# Altium schematic symbol library XCKU11P-1FFVA1156I.SchLib: 1 symbol
Pins are listed as number, name and electrical type; pins without a type are passive.

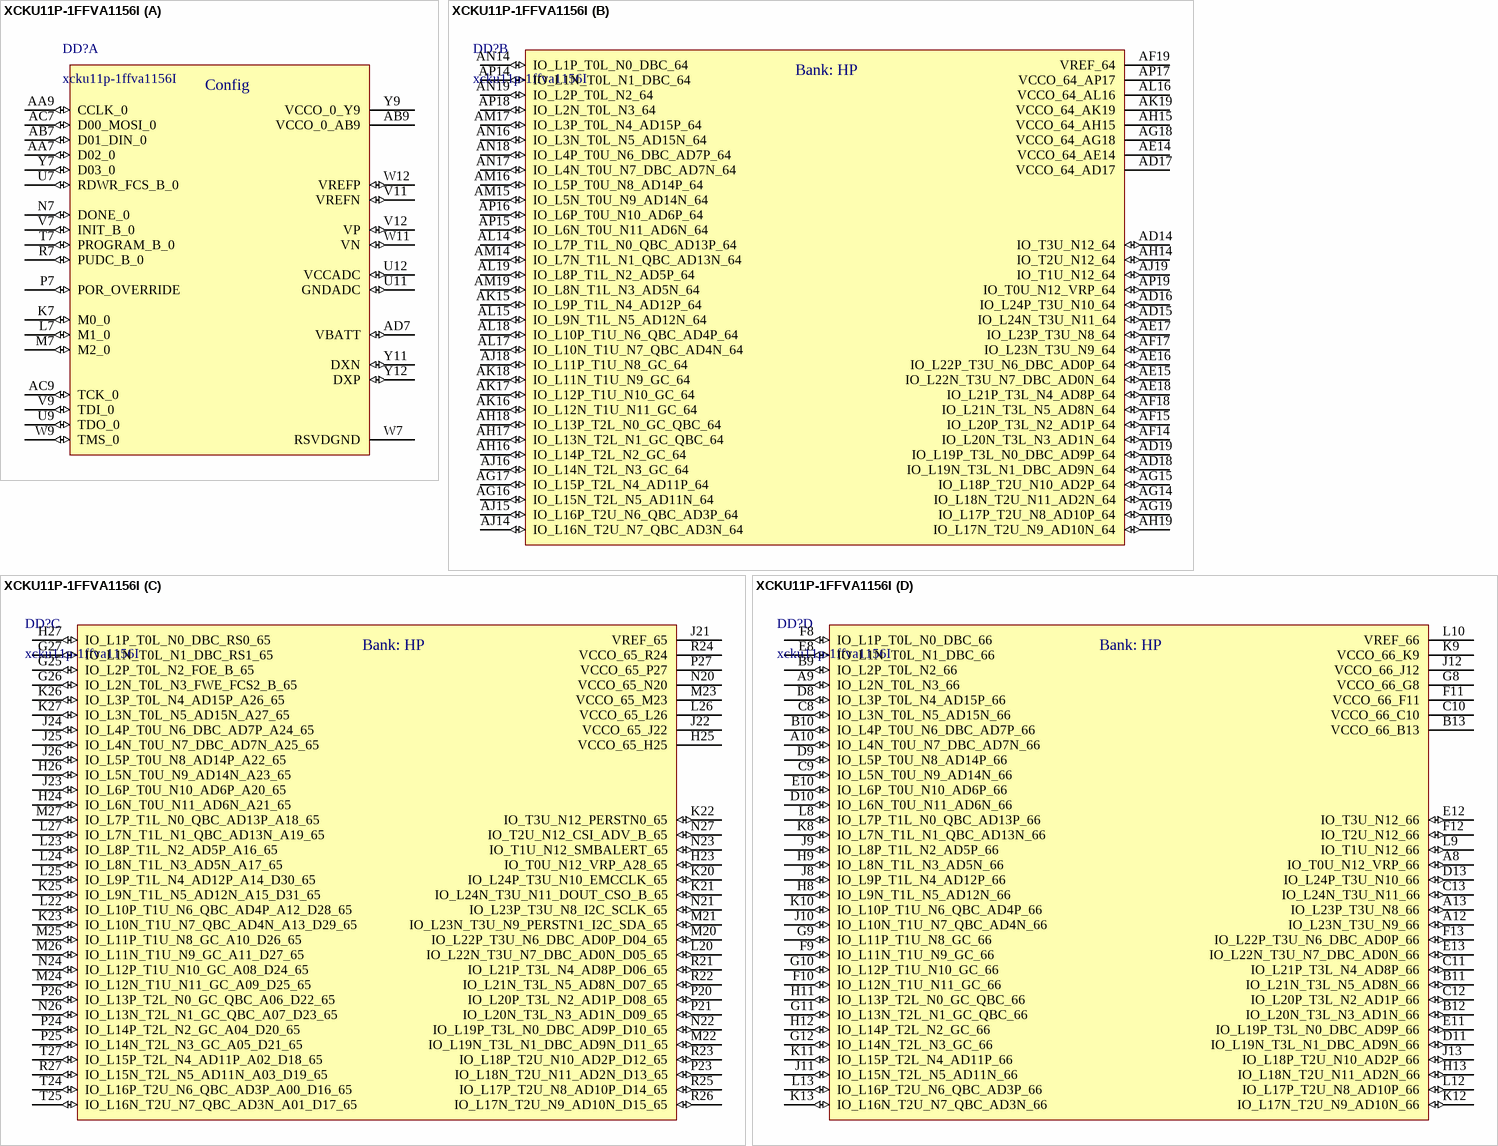
[diagram p0: symbol XCKU11P-1FFVA1156I]

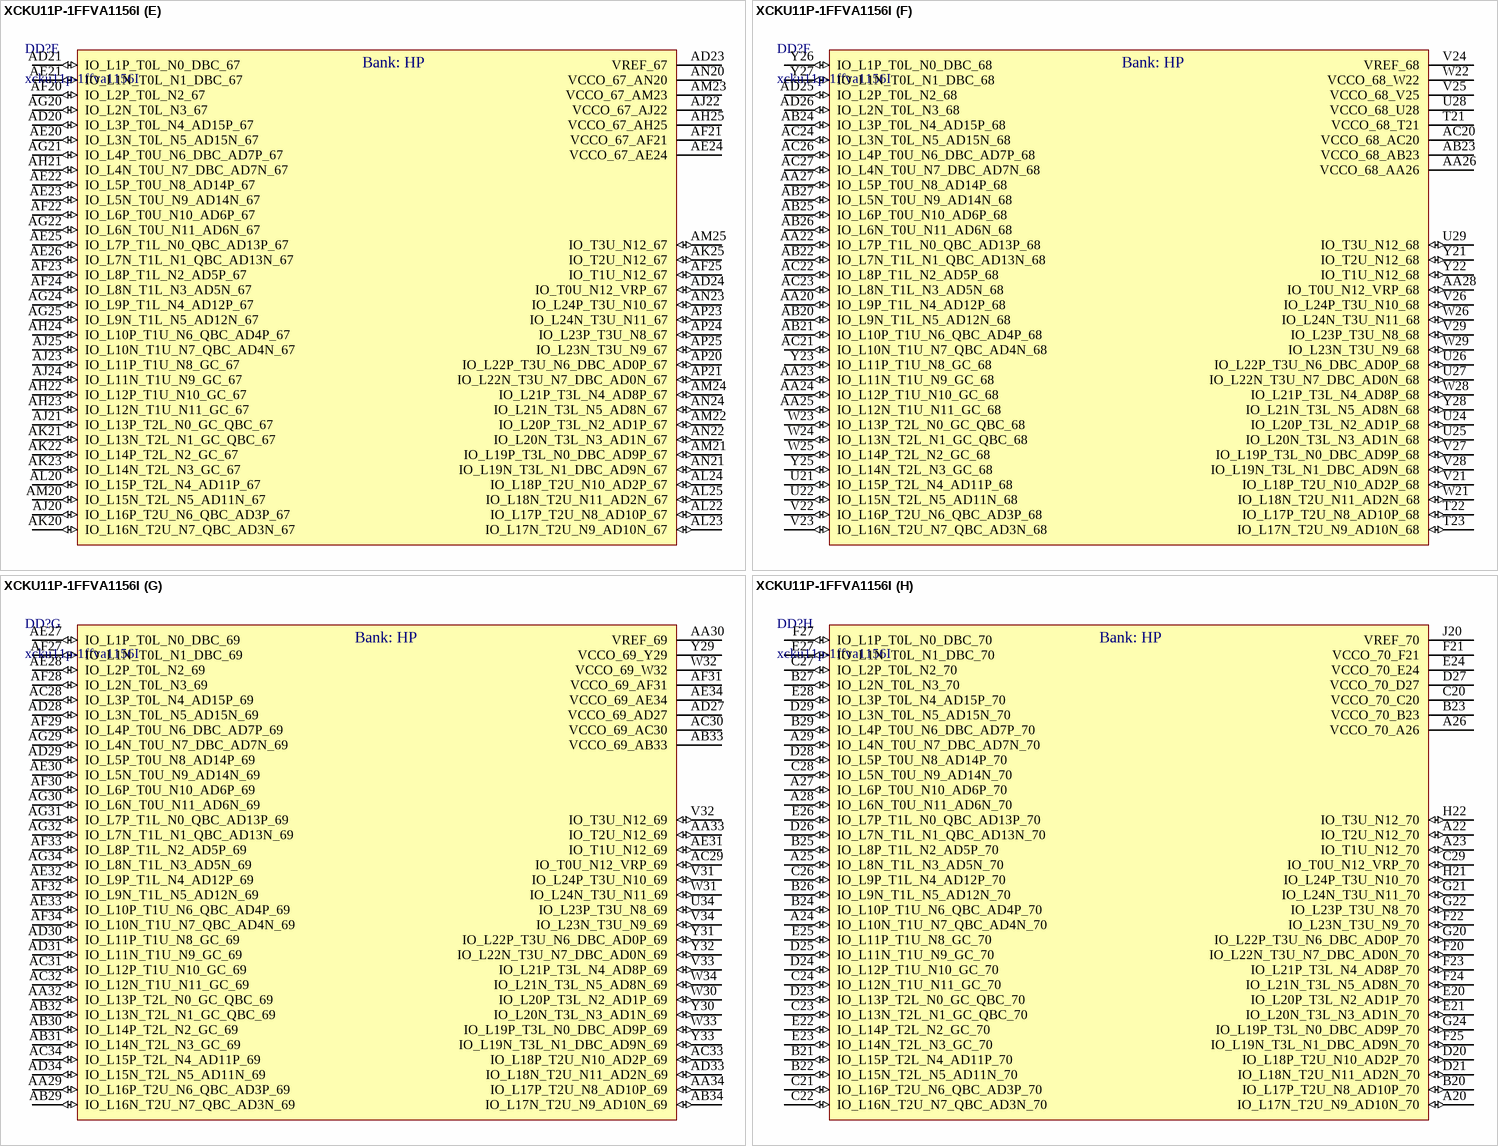
[diagram p1: symbol XCKU11P-1FFVA1156I]

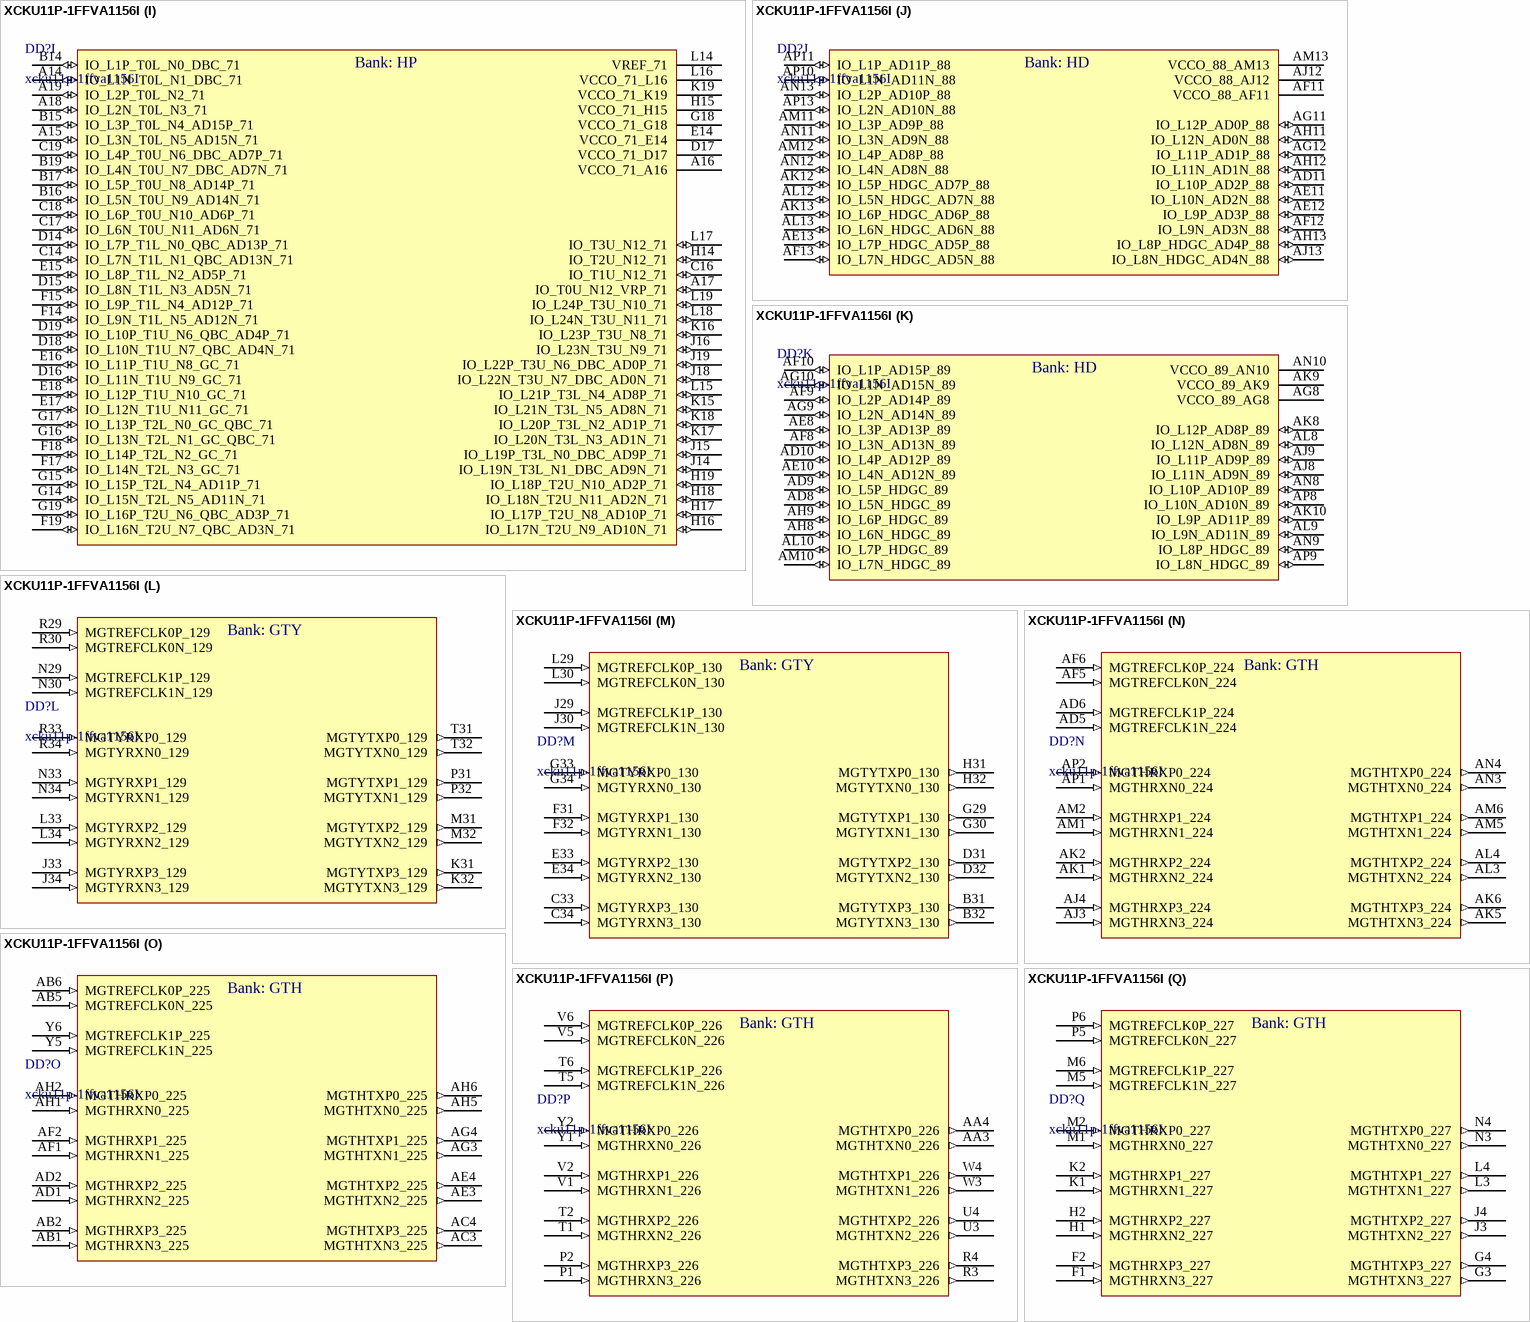
[diagram p2: symbol XCKU11P-1FFVA1156I]

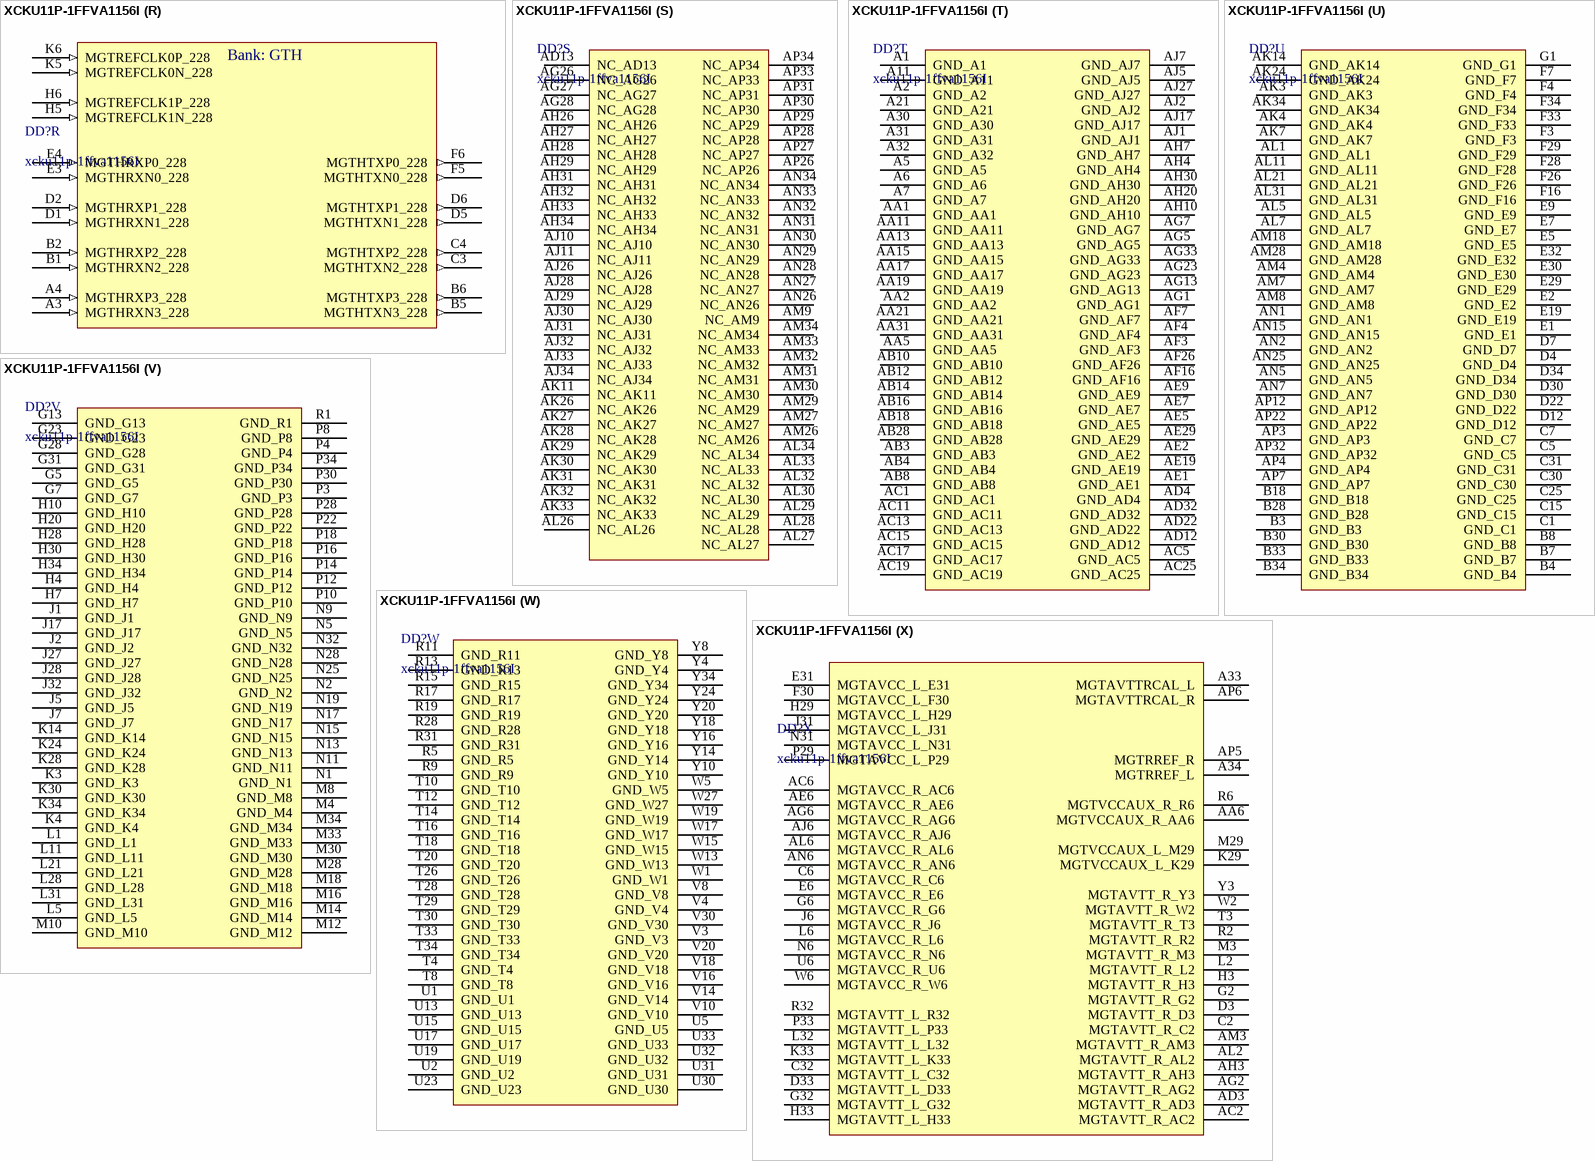
[diagram p3: symbol XCKU11P-1FFVA1156I]

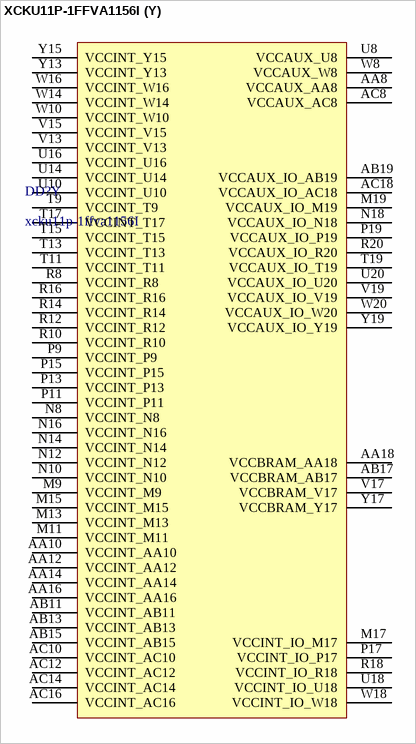
[diagram p4: symbol XCKU11P-1FFVA1156I]

## XCKU11P-1FFVA1156I
designator DD?, comment xcku11p-1ffva1156I
Kintex UltraScale+ Field Programmable Gate Array (FPGA) IC 464 53964800 653100 1156-BBGA, FCBGA; Manufacturer: Xilinx; Geometry.Height: 3.81mm; Part Number: XCKU11P-1FFVA1156I; Operating Temperature: -40°C ~ 100°C; Value: XCKU11P-1FFVA1156I; Package Type: FFVA1156
footprint BGA1156C100P34X34_3500X3500X342
part A pins: AA7 D02_0 (io), AA9 CCLK_0 (io), AB7 D01_DIN_0 (io), AB9 VCCO_0_AB9 (power), AC7 D00_MOSI_0 (io), AC9 TCK_0 (io), AD7 VBATT (io), K7 M0_0 (io), L7 M1_0 (io), M7 M2_0 (io), N7 DONE_0 (io), P7 POR_OVERRIDE (io), R7 PUDC_B_0 (io), T7 PROGRAM_B_0 (io), U7 RDWR_FCS_B_0 (io), U9 TDO_0 (io), U11 GNDADC (io), U12 VCCADC (io), V7 INIT_B_0 (io), V9 TDI_0 (io), V11 VREFN (io), V12 VP (io), W7 RSVDGND (power), W9 TMS_0 (io), W11 VN (io), W12 VREFP (io), Y7 D03_0 (io), Y9 VCCO_0_Y9 (power), Y11 DXN (io), Y12 DXP (io)
part B pins: AD14 IO_T3U_N12_64 (io), AD15 IO_L24N_T3U_N11_64 (io), AD16 IO_L24P_T3U_N10_64 (io), AD17 VCCO_64_AD17 (power), AD18 IO_L19N_T3L_N1_DBC_AD9N_64 (io), AD19 IO_L19P_T3L_N0_DBC_AD9P_64 (io), AE14 VCCO_64_AE14 (power), AE15 IO_L22N_T3U_N7_DBC_AD0N_64 (io), AE16 IO_L22P_T3U_N6_DBC_AD0P_64 (io), AE17 IO_L23P_T3U_N8_64 (io), AE18 IO_L21P_T3L_N4_AD8P_64 (io), AF14 IO_L20N_T3L_N3_AD1N_64 (io), AF15 IO_L20P_T3L_N2_AD1P_64 (io), AF17 IO_L23N_T3U_N9_64 (io), AF18 IO_L21N_T3L_N5_AD8N_64 (io), AF19 VREF_64 (power), AG14 IO_L18N_T2U_N11_AD2N_64 (io), AG15 IO_L18P_T2U_N10_AD2P_64 (io), AG16 IO_L15N_T2L_N5_AD11N_64 (io), AG17 IO_L15P_T2L_N4_AD11P_64 (io), AG18 VCCO_64_AG18 (power), AG19 IO_L17P_T2U_N8_AD10P_64 (io), AH14 IO_T2U_N12_64 (io), AH15 VCCO_64_AH15 (power), AH16 IO_L14P_T2L_N2_GC_64 (io), AH17 IO_L13N_T2L_N1_GC_QBC_64 (io), AH18 IO_L13P_T2L_N0_GC_QBC_64 (io), AH19 IO_L17N_T2U_N9_AD10N_64 (io), AJ14 IO_L16N_T2U_N7_QBC_AD3N_64 (io), AJ15 IO_L16P_T2U_N6_QBC_AD3P_64 (io), AJ16 IO_L14N_T2L_N3_GC_64 (io), AJ18 IO_L11P_T1U_N8_GC_64 (io), AJ19 IO_T1U_N12_64 (io), AK15 IO_L9P_T1L_N4_AD12P_64 (io), AK16 IO_L12N_T1U_N11_GC_64 (io), AK17 IO_L12P_T1U_N10_GC_64 (io), AK18 IO_L11N_T1U_N9_GC_64 (io), AK19 VCCO_64_AK19 (power), AL14 IO_L7P_T1L_N0_QBC_AD13P_64 (io), AL15 IO_L9N_T1L_N5_AD12N_64 (io), AL16 VCCO_64_AL16 (power), AL17 IO_L10N_T1U_N7_QBC_AD4N_64 (io), AL18 IO_L10P_T1U_N6_QBC_AD4P_64 (io), AL19 IO_L8P_T1L_N2_AD5P_64 (io), AM14 IO_L7N_T1L_N1_QBC_AD13N_64 (io), AM15 IO_L5N_T0U_N9_AD14N_64 (io), AM16 IO_L5P_T0U_N8_AD14P_64 (io), AM17 IO_L3P_T0L_N4_AD15P_64 (io), AM19 IO_L8N_T1L_N3_AD5N_64 (io), AN14 IO_L1P_T0L_N0_DBC_64 (io), AN16 IO_L3N_T0L_N5_AD15N_64 (io), AN17 IO_L4N_T0U_N7_DBC_AD7N_64 (io), AN18 IO_L4P_T0U_N6_DBC_AD7P_64 (io), AN19 IO_L2P_T0L_N2_64 (io), AP14 IO_L1N_T0L_N1_DBC_64 (io), AP15 IO_L6N_T0U_N11_AD6N_64 (io), AP16 IO_L6P_T0U_N10_AD6P_64 (io), AP17 VCCO_64_AP17 (power), AP18 IO_L2N_T0L_N3_64 (io), AP19 IO_T0U_N12_VRP_64 (io)
part C pins: G25 IO_L2P_T0L_N2_FOE_B_65 (io), G26 IO_L2N_T0L_N3_FWE_FCS2_B_65 (io), G27 IO_L1N_T0L_N1_DBC_RS1_65 (io), H23 IO_T0U_N12_VRP_A28_65 (io), H24 IO_L6N_T0U_N11_AD6N_A21_65 (io), H25 VCCO_65_H25 (power), H26 IO_L5N_T0U_N9_AD14N_A23_65 (io), H27 IO_L1P_T0L_N0_DBC_RS0_65 (io), J21 VREF_65 (power), J22 VCCO_65_J22 (power), J23 IO_L6P_T0U_N10_AD6P_A20_65 (io), J24 IO_L4P_T0U_N6_DBC_AD7P_A24_65 (io), J25 IO_L4N_T0U_N7_DBC_AD7N_A25_65 (io), J26 IO_L5P_T0U_N8_AD14P_A22_65 (io), K20 IO_L24P_T3U_N10_EMCCLK_65 (io), K21 IO_L24N_T3U_N11_DOUT_CSO_B_65 (io), K22 IO_T3U_N12_PERSTN0_65 (io), K23 IO_L10N_T1U_N7_QBC_AD4N_A13_D29_65 (io), K25 IO_L9N_T1L_N5_AD12N_A15_D31_65 (io), K26 IO_L3P_T0L_N4_AD15P_A26_65 (io), K27 IO_L3N_T0L_N5_AD15N_A27_65 (io), L20 IO_L22N_T3U_N7_DBC_AD0N_D05_65 (io), L22 IO_L10P_T1U_N6_QBC_AD4P_A12_D28_65 (io), L23 IO_L8P_T1L_N2_AD5P_A16_65 (io), L24 IO_L8N_T1L_N3_AD5N_A17_65 (io), L25 IO_L9P_T1L_N4_AD12P_A14_D30_65 (io), L26 VCCO_65_L26 (power), L27 IO_L7N_T1L_N1_QBC_AD13N_A19_65 (io), M20 IO_L22P_T3U_N6_DBC_AD0P_D04_65 (io), M21 IO_L23N_T3U_N9_PERSTN1_I2C_SDA_65 (io), M22 IO_L19N_T3L_N1_DBC_AD9N_D11_65 (io), M23 VCCO_65_M23 (power), M24 IO_L12N_T1U_N11_GC_A09_D25_65 (io), M25 IO_L11P_T1U_N8_GC_A10_D26_65 (io), M26 IO_L11N_T1U_N9_GC_A11_D27_65 (io), M27 IO_L7P_T1L_N0_QBC_AD13P_A18_65 (io), N20 VCCO_65_N20 (power), N21 IO_L23P_T3U_N8_I2C_SCLK_65 (io), N22 IO_L19P_T3L_N0_DBC_AD9P_D10_65 (io), N23 IO_T1U_N12_SMBALERT_65 (io), N24 IO_L12P_T1U_N10_GC_A08_D24_65 (io), N26 IO_L13N_T2L_N1_GC_QBC_A07_D23_65 (io), N27 IO_T2U_N12_CSI_ADV_B_65 (io), P20 IO_L20P_T3L_N2_AD1P_D08_65 (io), P21 IO_L20N_T3L_N3_AD1N_D09_65 (io), P23 IO_L18N_T2U_N11_AD2N_D13_65 (io), P24 IO_L14P_T2L_N2_GC_A04_D20_65 (io), P25 IO_L14N_T2L_N3_GC_A05_D21_65 (io), P26 IO_L13P_T2L_N0_GC_QBC_A06_D22_65 (io), P27 VCCO_65_P27 (power), R21 IO_L21P_T3L_N4_AD8P_D06_65 (io), R22 IO_L21N_T3L_N5_AD8N_D07_65 (io), R23 IO_L18P_T2U_N10_AD2P_D12_65 (io), R24 VCCO_65_R24 (power), R25 IO_L17P_T2U_N8_AD10P_D14_65 (io), R26 IO_L17N_T2U_N9_AD10N_D15_65 (io), R27 IO_L15N_T2L_N5_AD11N_A03_D19_65 (io), T24 IO_L16P_T2U_N6_QBC_AD3P_A00_D16_65 (io), T25 IO_L16N_T2U_N7_QBC_AD3N_A01_D17_65 (io), T27 IO_L15P_T2L_N4_AD11P_A02_D18_65 (io)
part D pins: A8 IO_T0U_N12_VRP_66 (io), A9 IO_L2N_T0L_N3_66 (io), A10 IO_L4N_T0U_N7_DBC_AD7N_66 (io), A12 IO_L23N_T3U_N9_66 (io), A13 IO_L23P_T3U_N8_66 (io), B9 IO_L2P_T0L_N2_66 (io), B10 IO_L4P_T0U_N6_DBC_AD7P_66 (io), B11 IO_L21N_T3L_N5_AD8N_66 (io), B12 IO_L20N_T3L_N3_AD1N_66 (io), B13 VCCO_66_B13 (power), C8 IO_L3N_T0L_N5_AD15N_66 (io), C9 IO_L5N_T0U_N9_AD14N_66 (io), C10 VCCO_66_C10 (power), C11 IO_L21P_T3L_N4_AD8P_66 (io), C12 IO_L20P_T3L_N2_AD1P_66 (io), C13 IO_L24N_T3U_N11_66 (io), D8 IO_L3P_T0L_N4_AD15P_66 (io), D9 IO_L5P_T0U_N8_AD14P_66 (io), D10 IO_L6N_T0U_N11_AD6N_66 (io), D11 IO_L19N_T3L_N1_DBC_AD9N_66 (io), D13 IO_L24P_T3U_N10_66 (io), E8 IO_L1N_T0L_N1_DBC_66 (io), E10 IO_L6P_T0U_N10_AD6P_66 (io), E11 IO_L19P_T3L_N0_DBC_AD9P_66 (io), E12 IO_T3U_N12_66 (io), E13 IO_L22N_T3U_N7_DBC_AD0N_66 (io), F8 IO_L1P_T0L_N0_DBC_66 (io), F9 IO_L11N_T1U_N9_GC_66 (io), F10 IO_L12N_T1U_N11_GC_66 (io), F11 VCCO_66_F11 (power), F12 IO_T2U_N12_66 (io), F13 IO_L22P_T3U_N6_DBC_AD0P_66 (io), G8 VCCO_66_G8 (power), G9 IO_L11P_T1U_N8_GC_66 (io), G10 IO_L12P_T1U_N10_GC_66 (io), G11 IO_L13N_T2L_N1_GC_QBC_66 (io), G12 IO_L14N_T2L_N3_GC_66 (io), H8 IO_L9N_T1L_N5_AD12N_66 (io), H9 IO_L8N_T1L_N3_AD5N_66 (io), H11 IO_L13P_T2L_N0_GC_QBC_66 (io), H12 IO_L14P_T2L_N2_GC_66 (io), H13 IO_L18N_T2U_N11_AD2N_66 (io), J8 IO_L9P_T1L_N4_AD12P_66 (io), J9 IO_L8P_T1L_N2_AD5P_66 (io), J10 IO_L10N_T1U_N7_QBC_AD4N_66 (io), J11 IO_L15N_T2L_N5_AD11N_66 (io), J12 VCCO_66_J12 (power), J13 IO_L18P_T2U_N10_AD2P_66 (io), K8 IO_L7N_T1L_N1_QBC_AD13N_66 (io), K9 VCCO_66_K9 (power), K10 IO_L10P_T1U_N6_QBC_AD4P_66 (io), K11 IO_L15P_T2L_N4_AD11P_66 (io), K12 IO_L17N_T2U_N9_AD10N_66 (io), K13 IO_L16N_T2U_N7_QBC_AD3N_66 (io), L8 IO_L7P_T1L_N0_QBC_AD13P_66 (io), L9 IO_T1U_N12_66 (io), L10 VREF_66 (power), L12 IO_L17P_T2U_N8_AD10P_66 (io), L13 IO_L16P_T2U_N6_QBC_AD3P_66 (io)
part E pins: AD20 IO_L3P_T0L_N4_AD15P_67 (io), AD21 IO_L1P_T0L_N0_DBC_67 (io), AD23 VREF_67 (power), AD24 IO_T0U_N12_VRP_67 (io), AE20 IO_L3N_T0L_N5_AD15N_67 (io), AE21 IO_L1N_T0L_N1_DBC_67 (io), AE22 IO_L5P_T0U_N8_AD14P_67 (io), AE23 IO_L5N_T0U_N9_AD14N_67 (io), AE24 VCCO_67_AE24 (power), AE25 IO_L7P_T1L_N0_QBC_AD13P_67 (io), AE26 IO_L7N_T1L_N1_QBC_AD13N_67 (io), AF20 IO_L2P_T0L_N2_67 (io), AF21 VCCO_67_AF21 (power), AF22 IO_L6P_T0U_N10_AD6P_67 (io), AF23 IO_L8P_T1L_N2_AD5P_67 (io), AF24 IO_L8N_T1L_N3_AD5N_67 (io), AF25 IO_T1U_N12_67 (io), AG20 IO_L2N_T0L_N3_67 (io), AG21 IO_L4P_T0U_N6_DBC_AD7P_67 (io), AG22 IO_L6N_T0U_N11_AD6N_67 (io), AG24 IO_L9P_T1L_N4_AD12P_67 (io), AG25 IO_L9N_T1L_N5_AD12N_67 (io), AH21 IO_L4N_T0U_N7_DBC_AD7N_67 (io), AH22 IO_L12P_T1U_N10_GC_67 (io), AH23 IO_L12N_T1U_N11_GC_67 (io), AH24 IO_L10P_T1U_N6_QBC_AD4P_67 (io), AH25 VCCO_67_AH25 (power), AJ20 IO_L16P_T2U_N6_QBC_AD3P_67 (io), AJ21 IO_L13P_T2L_N0_GC_QBC_67 (io), AJ22 VCCO_67_AJ22 (power), AJ23 IO_L11P_T1U_N8_GC_67 (io), AJ24 IO_L11N_T1U_N9_GC_67 (io), AJ25 IO_L10N_T1U_N7_QBC_AD4N_67 (io), AK20 IO_L16N_T2U_N7_QBC_AD3N_67 (io), AK21 IO_L13N_T2L_N1_GC_QBC_67 (io), AK22 IO_L14P_T2L_N2_GC_67 (io), AK23 IO_L14N_T2L_N3_GC_67 (io), AK25 IO_T2U_N12_67 (io), AL20 IO_L15P_T2L_N4_AD11P_67 (io), AL22 IO_L17P_T2U_N8_AD10P_67 (io), AL23 IO_L17N_T2U_N9_AD10N_67 (io), AL24 IO_L18P_T2U_N10_AD2P_67 (io), AL25 IO_L18N_T2U_N11_AD2N_67 (io), AM20 IO_L15N_T2L_N5_AD11N_67 (io), AM21 IO_L19P_T3L_N0_DBC_AD9P_67 (io), AM22 IO_L20P_T3L_N2_AD1P_67 (io), AM23 VCCO_67_AM23 (power), AM24 IO_L21P_T3L_N4_AD8P_67 (io), AM25 IO_T3U_N12_67 (io), AN20 VCCO_67_AN20 (power), AN21 IO_L19N_T3L_N1_DBC_AD9N_67 (io), AN22 IO_L20N_T3L_N3_AD1N_67 (io), AN23 IO_L24P_T3U_N10_67 (io), AN24 IO_L21N_T3L_N5_AD8N_67 (io), AP20 IO_L22P_T3U_N6_DBC_AD0P_67 (io), AP21 IO_L22N_T3U_N7_DBC_AD0N_67 (io), AP23 IO_L24N_T3U_N11_67 (io), AP24 IO_L23P_T3U_N8_67 (io), AP25 IO_L23N_T3U_N9_67 (io)
part F pins: AA20 IO_L9P_T1L_N4_AD12P_68 (io), AA22 IO_L7P_T1L_N0_QBC_AD13P_68 (io), AA23 IO_L11N_T1U_N9_GC_68 (io), AA24 IO_L12P_T1U_N10_GC_68 (io), AA25 IO_L12N_T1U_N11_GC_68 (io), AA26 VCCO_68_AA26 (power), AA27 IO_L5P_T0U_N8_AD14P_68 (io), AA28 IO_T0U_N12_VRP_68 (io), AB20 IO_L9N_T1L_N5_AD12N_68 (io), AB21 IO_L10P_T1U_N6_QBC_AD4P_68 (io), AB22 IO_L7N_T1L_N1_QBC_AD13N_68 (io), AB23 VCCO_68_AB23 (power), AB24 IO_L3P_T0L_N4_AD15P_68 (io), AB25 IO_L6P_T0U_N10_AD6P_68 (io), AB26 IO_L6N_T0U_N11_AD6N_68 (io), AB27 IO_L5N_T0U_N9_AD14N_68 (io), AC20 VCCO_68_AC20 (power), AC21 IO_L10N_T1U_N7_QBC_AD4N_68 (io), AC22 IO_L8P_T1L_N2_AD5P_68 (io), AC23 IO_L8N_T1L_N3_AD5N_68 (io), AC24 IO_L3N_T0L_N5_AD15N_68 (io), AC26 IO_L4P_T0U_N6_DBC_AD7P_68 (io), AC27 IO_L4N_T0U_N7_DBC_AD7N_68 (io), AD25 IO_L2P_T0L_N2_68 (io), AD26 IO_L2N_T0L_N3_68 (io), T21 VCCO_68_T21 (power), T22 IO_L17P_T2U_N8_AD10P_68 (io), T23 IO_L17N_T2U_N9_AD10N_68 (io), U21 IO_L15P_T2L_N4_AD11P_68 (io), U22 IO_L15N_T2L_N5_AD11N_68 (io), U24 IO_L20P_T3L_N2_AD1P_68 (io), U25 IO_L20N_T3L_N3_AD1N_68 (io), U26 IO_L22P_T3U_N6_DBC_AD0P_68 (io), U27 IO_L22N_T3U_N7_DBC_AD0N_68 (io), U28 VCCO_68_U28 (power), U29 IO_T3U_N12_68 (io), V21 IO_L18P_T2U_N10_AD2P_68 (io), V22 IO_L16P_T2U_N6_QBC_AD3P_68 (io), V23 IO_L16N_T2U_N7_QBC_AD3N_68 (io), V24 VREF_68 (power), V25 VCCO_68_V25 (power), V26 IO_L24P_T3U_N10_68 (io), V27 IO_L19P_T3L_N0_DBC_AD9P_68 (io), V28 IO_L19N_T3L_N1_DBC_AD9N_68 (io), V29 IO_L23P_T3U_N8_68 (io), W21 IO_L18N_T2U_N11_AD2N_68 (io), W22 VCCO_68_W22 (power), W23 IO_L13P_T2L_N0_GC_QBC_68 (io), W24 IO_L13N_T2L_N1_GC_QBC_68 (io), W25 IO_L14P_T2L_N2_GC_68 (io), W26 IO_L24N_T3U_N11_68 (io), W28 IO_L21P_T3L_N4_AD8P_68 (io), W29 IO_L23N_T3U_N9_68 (io), Y21 IO_T2U_N12_68 (io), Y22 IO_T1U_N12_68 (io), Y23 IO_L11P_T1U_N8_GC_68 (io), Y25 IO_L14N_T2L_N3_GC_68 (io), Y26 IO_L1P_T0L_N0_DBC_68 (io), Y27 IO_L1N_T0L_N1_DBC_68 (io), Y28 IO_L21N_T3L_N5_AD8N_68 (io)
part G pins: AA29 IO_L16P_T2U_N6_QBC_AD3P_69 (io), AA30 VREF_69 (power), AA32 IO_L13P_T2L_N0_GC_QBC_69 (io), AA33 IO_T2U_N12_69 (io), AA34 IO_L17P_T2U_N8_AD10P_69 (io), AB29 IO_L16N_T2U_N7_QBC_AD3N_69 (io), AB30 IO_L14P_T2L_N2_GC_69 (io), AB31 IO_L14N_T2L_N3_GC_69 (io), AB32 IO_L13N_T2L_N1_GC_QBC_69 (io), AB33 VCCO_69_AB33 (power), AB34 IO_L17N_T2U_N9_AD10N_69 (io), AC28 IO_L3P_T0L_N4_AD15P_69 (io), AC29 IO_T0U_N12_VRP_69 (io), AC30 VCCO_69_AC30 (power), AC31 IO_L12P_T1U_N10_GC_69 (io), AC32 IO_L12N_T1U_N11_GC_69 (io), AC33 IO_L18P_T2U_N10_AD2P_69 (io), AC34 IO_L15P_T2L_N4_AD11P_69 (io), AD27 VCCO_69_AD27 (power), AD28 IO_L3N_T0L_N5_AD15N_69 (io), AD29 IO_L5P_T0U_N8_AD14P_69 (io), AD30 IO_L11P_T1U_N8_GC_69 (io), AD31 IO_L11N_T1U_N9_GC_69 (io), AD33 IO_L18N_T2U_N11_AD2N_69 (io), AD34 IO_L15N_T2L_N5_AD11N_69 (io), AE27 IO_L1P_T0L_N0_DBC_69 (io), AE28 IO_L2P_T0L_N2_69 (io), AE30 IO_L5N_T0U_N9_AD14N_69 (io), AE31 IO_T1U_N12_69 (io), AE32 IO_L9P_T1L_N4_AD12P_69 (io), AE33 IO_L10P_T1U_N6_QBC_AD4P_69 (io), AE34 VCCO_69_AE34 (power), AF27 IO_L1N_T0L_N1_DBC_69 (io), AF28 IO_L2N_T0L_N3_69 (io), AF29 IO_L4P_T0U_N6_DBC_AD7P_69 (io), AF30 IO_L6P_T0U_N10_AD6P_69 (io), AF31 VCCO_69_AF31 (power), AF32 IO_L9N_T1L_N5_AD12N_69 (io), AF33 IO_L8P_T1L_N2_AD5P_69 (io), AF34 IO_L10N_T1U_N7_QBC_AD4N_69 (io), AG29 IO_L4N_T0U_N7_DBC_AD7N_69 (io), AG30 IO_L6N_T0U_N11_AD6N_69 (io), AG31 IO_L7P_T1L_N0_QBC_AD13P_69 (io), AG32 IO_L7N_T1L_N1_QBC_AD13N_69 (io), AG34 IO_L8N_T1L_N3_AD5N_69 (io), U34 IO_L23P_T3U_N8_69 (io), V31 IO_L24P_T3U_N10_69 (io), V32 IO_T3U_N12_69 (io), V33 IO_L21P_T3L_N4_AD8P_69 (io), V34 IO_L23N_T3U_N9_69 (io), W30 IO_L20P_T3L_N2_AD1P_69 (io), W31 IO_L24N_T3U_N11_69 (io), W32 VCCO_69_W32 (power), W33 IO_L19P_T3L_N0_DBC_AD9P_69 (io), W34 IO_L21N_T3L_N5_AD8N_69 (io), Y29 VCCO_69_Y29 (power), Y30 IO_L20N_T3L_N3_AD1N_69 (io), Y31 IO_L22P_T3U_N6_DBC_AD0P_69 (io), Y32 IO_L22N_T3U_N7_DBC_AD0N_69 (io), Y33 IO_L19N_T3L_N1_DBC_AD9N_69 (io)
part H pins: A20 IO_L17N_T2U_N9_AD10N_70 (io), A22 IO_T2U_N12_70 (io), A23 IO_T1U_N12_70 (io), A24 IO_L10N_T1U_N7_QBC_AD4N_70 (io), A25 IO_L8N_T1L_N3_AD5N_70 (io), A26 VCCO_70_A26 (power), A27 IO_L6P_T0U_N10_AD6P_70 (io), A28 IO_L6N_T0U_N11_AD6N_70 (io), A29 IO_L4N_T0U_N7_DBC_AD7N_70 (io), B20 IO_L17P_T2U_N8_AD10P_70 (io), B21 IO_L15P_T2L_N4_AD11P_70 (io), B22 IO_L15N_T2L_N5_AD11N_70 (io), B23 VCCO_70_B23 (power), B24 IO_L10P_T1U_N6_QBC_AD4P_70 (io), B25 IO_L8P_T1L_N2_AD5P_70 (io), B26 IO_L9N_T1L_N5_AD12N_70 (io), B27 IO_L2N_T0L_N3_70 (io), B29 IO_L4P_T0U_N6_DBC_AD7P_70 (io), C20 VCCO_70_C20 (power), C21 IO_L16P_T2U_N6_QBC_AD3P_70 (io), C22 IO_L16N_T2U_N7_QBC_AD3N_70 (io), C23 IO_L13N_T2L_N1_GC_QBC_70 (io), C24 IO_L12N_T1U_N11_GC_70 (io), C26 IO_L9P_T1L_N4_AD12P_70 (io), C27 IO_L2P_T0L_N2_70 (io), C28 IO_L5N_T0U_N9_AD14N_70 (io), C29 IO_T0U_N12_VRP_70 (io), D20 IO_L18P_T2U_N10_AD2P_70 (io), D21 IO_L18N_T2U_N11_AD2N_70 (io), D23 IO_L13P_T2L_N0_GC_QBC_70 (io), D24 IO_L12P_T1U_N10_GC_70 (io), D25 IO_L11N_T1U_N9_GC_70 (io), D26 IO_L7N_T1L_N1_QBC_AD13N_70 (io), D27 VCCO_70_D27 (power), D28 IO_L5P_T0U_N8_AD14P_70 (io), D29 IO_L3N_T0L_N5_AD15N_70 (io), E20 IO_L20P_T3L_N2_AD1P_70 (io), E21 IO_L20N_T3L_N3_AD1N_70 (io), E22 IO_L14P_T2L_N2_GC_70 (io), E23 IO_L14N_T2L_N3_GC_70 (io), E24 VCCO_70_E24 (power), E25 IO_L11P_T1U_N8_GC_70 (io), E26 IO_L7P_T1L_N0_QBC_AD13P_70 (io), E27 IO_L1N_T0L_N1_DBC_70 (io), E28 IO_L3P_T0L_N4_AD15P_70 (io), F20 IO_L22N_T3U_N7_DBC_AD0N_70 (io), F21 VCCO_70_F21 (power), F22 IO_L23N_T3U_N9_70 (io), F23 IO_L21P_T3L_N4_AD8P_70 (io), F24 IO_L21N_T3L_N5_AD8N_70 (io), F25 IO_L19N_T3L_N1_DBC_AD9N_70 (io), F27 IO_L1P_T0L_N0_DBC_70 (io), G20 IO_L22P_T3U_N6_DBC_AD0P_70 (io), G21 IO_L24N_T3U_N11_70 (io), G22 IO_L23P_T3U_N8_70 (io), G24 IO_L19P_T3L_N0_DBC_AD9P_70 (io), H21 IO_L24P_T3U_N10_70 (io), H22 IO_T3U_N12_70 (io), J20 VREF_70 (power)
part I pins: A14 IO_L1N_T0L_N1_DBC_71 (io), A15 IO_L3N_T0L_N5_AD15N_71 (io), A16 VCCO_71_A16 (power), A17 IO_T0U_N12_VRP_71 (io), A18 IO_L2N_T0L_N3_71 (io), A19 IO_L2P_T0L_N2_71 (io), B14 IO_L1P_T0L_N0_DBC_71 (io), B15 IO_L3P_T0L_N4_AD15P_71 (io), B16 IO_L5N_T0U_N9_AD14N_71 (io), B17 IO_L5P_T0U_N8_AD14P_71 (io), B19 IO_L4N_T0U_N7_DBC_AD7N_71 (io), C14 IO_L7N_T1L_N1_QBC_AD13N_71 (io), C16 IO_T1U_N12_71 (io), C17 IO_L6N_T0U_N11_AD6N_71 (io), C18 IO_L6P_T0U_N10_AD6P_71 (io), C19 IO_L4P_T0U_N6_DBC_AD7P_71 (io), D14 IO_L7P_T1L_N0_QBC_AD13P_71 (io), D15 IO_L8N_T1L_N3_AD5N_71 (io), D16 IO_L11N_T1U_N9_GC_71 (io), D17 VCCO_71_D17 (power), D18 IO_L10N_T1U_N7_QBC_AD4N_71 (io), D19 IO_L10P_T1U_N6_QBC_AD4P_71 (io), E14 VCCO_71_E14 (power), E15 IO_L8P_T1L_N2_AD5P_71 (io), E16 IO_L11P_T1U_N8_GC_71 (io), E17 IO_L12N_T1U_N11_GC_71 (io), E18 IO_L12P_T1U_N10_GC_71 (io), F14 IO_L9N_T1L_N5_AD12N_71 (io), F15 IO_L9P_T1L_N4_AD12P_71 (io), F17 IO_L14N_T2L_N3_GC_71 (io), F18 IO_L14P_T2L_N2_GC_71 (io), F19 IO_L16N_T2U_N7_QBC_AD3N_71 (io), G14 IO_L15N_T2L_N5_AD11N_71 (io), G15 IO_L15P_T2L_N4_AD11P_71 (io), G16 IO_L13N_T2L_N1_GC_QBC_71 (io), G17 IO_L13P_T2L_N0_GC_QBC_71 (io), G18 VCCO_71_G18 (power), G19 IO_L16P_T2U_N6_QBC_AD3P_71 (io), H14 IO_T2U_N12_71 (io), H15 VCCO_71_H15 (power), H16 IO_L17N_T2U_N9_AD10N_71 (io), H17 IO_L17P_T2U_N8_AD10P_71 (io), H18 IO_L18N_T2U_N11_AD2N_71 (io), H19 IO_L18P_T2U_N10_AD2P_71 (io), J14 IO_L19N_T3L_N1_DBC_AD9N_71 (io), J15 IO_L19P_T3L_N0_DBC_AD9P_71 (io), J16 IO_L23N_T3U_N9_71 (io), J18 IO_L22N_T3U_N7_DBC_AD0N_71 (io), J19 IO_L22P_T3U_N6_DBC_AD0P_71 (io), K15 IO_L21N_T3L_N5_AD8N_71 (io), K16 IO_L23P_T3U_N8_71 (io), K17 IO_L20N_T3L_N3_AD1N_71 (io), K18 IO_L20P_T3L_N2_AD1P_71 (io), K19 VCCO_71_K19 (power), L14 VREF_71 (power), L15 IO_L21P_T3L_N4_AD8P_71 (io), L16 VCCO_71_L16 (power), L17 IO_T3U_N12_71 (io), L18 IO_L24N_T3U_N11_71 (io), L19 IO_L24P_T3U_N10_71 (io)
part J pins: AD11 IO_L10P_AD2P_88 (io), AE11 IO_L10N_AD2N_88 (io), AE12 IO_L9P_AD3P_88 (io), AE13 IO_L7P_HDGC_AD5P_88 (io), AF11 VCCO_88_AF11 (power), AF12 IO_L9N_AD3N_88 (io), AF13 IO_L7N_HDGC_AD5N_88 (io), AG11 IO_L12P_AD0P_88 (io), AG12 IO_L11P_AD1P_88 (io), AH11 IO_L12N_AD0N_88 (io), AH12 IO_L11N_AD1N_88 (io), AH13 IO_L8P_HDGC_AD4P_88 (io), AJ12 VCCO_88_AJ12 (power), AJ13 IO_L8N_HDGC_AD4N_88 (io), AK12 IO_L5P_HDGC_AD7P_88 (io), AK13 IO_L6P_HDGC_AD6P_88 (io), AL12 IO_L5N_HDGC_AD7N_88 (io), AL13 IO_L6N_HDGC_AD6N_88 (io), AM11 IO_L3P_AD9P_88 (io), AM12 IO_L4P_AD8P_88 (io), AM13 VCCO_88_AM13 (power), AN11 IO_L3N_AD9N_88 (io), AN12 IO_L4N_AD8N_88 (io), AN13 IO_L2P_AD10P_88 (io), AP10 IO_L1N_AD11N_88 (io), AP11 IO_L1P_AD11P_88 (io), AP13 IO_L2N_AD10N_88 (io)
part K pins: AD8 IO_L5N_HDGC_89 (io), AD9 IO_L5P_HDGC_89 (io), AD10 IO_L4P_AD12P_89 (io), AE8 IO_L3P_AD13P_89 (io), AE10 IO_L4N_AD12N_89 (io), AF8 IO_L3N_AD13N_89 (io), AF9 IO_L2P_AD14P_89 (io), AF10 IO_L1P_AD15P_89 (io), AG8 VCCO_89_AG8 (power), AG9 IO_L2N_AD14N_89 (io), AG10 IO_L1N_AD15N_89 (io), AH8 IO_L6N_HDGC_89 (io), AH9 IO_L6P_HDGC_89 (io), AJ8 IO_L11N_AD9N_89 (io), AJ9 IO_L11P_AD9P_89 (io), AK8 IO_L12P_AD8P_89 (io), AK9 VCCO_89_AK9 (power), AK10 IO_L9P_AD11P_89 (io), AL8 IO_L12N_AD8N_89 (io), AL9 IO_L9N_AD11N_89 (io), AL10 IO_L7P_HDGC_89 (io), AM10 IO_L7N_HDGC_89 (io), AN8 IO_L10P_AD10P_89 (io), AN9 IO_L8P_HDGC_89 (io), AN10 VCCO_89_AN10 (power), AP8 IO_L10N_AD10N_89 (io), AP9 IO_L8N_HDGC_89 (io)
part L pins: J33 MGTYRXP3_129 (in), J34 MGTYRXN3_129 (in), K31 MGTYTXP3_129 (out), K32 MGTYTXN3_129 (out), L33 MGTYRXP2_129 (in), L34 MGTYRXN2_129 (in), M31 MGTYTXP2_129 (out), M32 MGTYTXN2_129 (out), N29 MGTREFCLK1P_129 (in), N30 MGTREFCLK1N_129 (in), N33 MGTYRXP1_129 (in), N34 MGTYRXN1_129 (in), P31 MGTYTXP1_129 (out), P32 MGTYTXN1_129 (out), R29 MGTREFCLK0P_129 (in), R30 MGTREFCLK0N_129 (in), R33 MGTYRXP0_129 (in), R34 MGTYRXN0_129 (in), T31 MGTYTXP0_129 (out), T32 MGTYTXN0_129 (out)
part M pins: B31 MGTYTXP3_130 (out), B32 MGTYTXN3_130 (out), C33 MGTYRXP3_130 (in), C34 MGTYRXN3_130 (in), D31 MGTYTXP2_130 (out), D32 MGTYTXN2_130 (out), E33 MGTYRXP2_130 (in), E34 MGTYRXN2_130 (in), F31 MGTYRXP1_130 (in), F32 MGTYRXN1_130 (in), G29 MGTYTXP1_130 (out), G30 MGTYTXN1_130 (out), G33 MGTYRXP0_130 (in), G34 MGTYRXN0_130 (in), H31 MGTYTXP0_130 (out), H32 MGTYTXN0_130 (out), J29 MGTREFCLK1P_130 (in), J30 MGTREFCLK1N_130 (in), L29 MGTREFCLK0P_130 (in), L30 MGTREFCLK0N_130 (in)
part N pins: AD5 MGTREFCLK1N_224 (in), AD6 MGTREFCLK1P_224 (in), AF5 MGTREFCLK0N_224 (in), AF6 MGTREFCLK0P_224 (in), AJ3 MGTHRXN3_224 (in), AJ4 MGTHRXP3_224 (in), AK1 MGTHRXN2_224 (in), AK2 MGTHRXP2_224 (in), AK5 MGTHTXN3_224 (out), AK6 MGTHTXP3_224 (out), AL3 MGTHTXN2_224 (out), AL4 MGTHTXP2_224 (out), AM1 MGTHRXN1_224 (in), AM2 MGTHRXP1_224 (in), AM5 MGTHTXN1_224 (out), AM6 MGTHTXP1_224 (out), AN3 MGTHTXN0_224 (out), AN4 MGTHTXP0_224 (out), AP1 MGTHRXN0_224 (in), AP2 MGTHRXP0_224 (in)
part O pins: AB1 MGTHRXN3_225 (in), AB2 MGTHRXP3_225 (in), AB5 MGTREFCLK0N_225 (in), AB6 MGTREFCLK0P_225 (in), AC3 MGTHTXN3_225 (out), AC4 MGTHTXP3_225 (out), AD1 MGTHRXN2_225 (in), AD2 MGTHRXP2_225 (in), AE3 MGTHTXN2_225 (out), AE4 MGTHTXP2_225 (out), AF1 MGTHRXN1_225 (in), AF2 MGTHRXP1_225 (in), AG3 MGTHTXN1_225 (out), AG4 MGTHTXP1_225 (out), AH1 MGTHRXN0_225 (in), AH2 MGTHRXP0_225 (in), AH5 MGTHTXN0_225 (out), AH6 MGTHTXP0_225 (out), Y5 MGTREFCLK1N_225 (in), Y6 MGTREFCLK1P_225 (in)
part P pins: AA3 MGTHTXN0_226 (out), AA4 MGTHTXP0_226 (out), P1 MGTHRXN3_226 (in), P2 MGTHRXP3_226 (in), R3 MGTHTXN3_226 (out), R4 MGTHTXP3_226 (out), T1 MGTHRXN2_226 (in), T2 MGTHRXP2_226 (in), T5 MGTREFCLK1N_226 (in), T6 MGTREFCLK1P_226 (in), U3 MGTHTXN2_226 (out), U4 MGTHTXP2_226 (out), V1 MGTHRXN1_226 (in), V2 MGTHRXP1_226 (in), V5 MGTREFCLK0N_226 (in), V6 MGTREFCLK0P_226 (in), W3 MGTHTXN1_226 (out), W4 MGTHTXP1_226 (out), Y1 MGTHRXN0_226 (in), Y2 MGTHRXP0_226 (in)
part Q pins: F1 MGTHRXN3_227 (in), F2 MGTHRXP3_227 (in), G3 MGTHTXN3_227 (out), G4 MGTHTXP3_227 (out), H1 MGTHRXN2_227 (in), H2 MGTHRXP2_227 (in), J3 MGTHTXN2_227 (out), J4 MGTHTXP2_227 (out), K1 MGTHRXN1_227 (in), K2 MGTHRXP1_227 (in), L3 MGTHTXN1_227 (out), L4 MGTHTXP1_227 (out), M1 MGTHRXN0_227 (in), M2 MGTHRXP0_227 (in), M5 MGTREFCLK1N_227 (in), M6 MGTREFCLK1P_227 (in), N3 MGTHTXN0_227 (out), N4 MGTHTXP0_227 (out), P5 MGTREFCLK0N_227 (in), P6 MGTREFCLK0P_227 (in)
part R pins: A3 MGTHRXN3_228 (in), A4 MGTHRXP3_228 (in), B1 MGTHRXN2_228 (in), B2 MGTHRXP2_228 (in), B5 MGTHTXN3_228 (out), B6 MGTHTXP3_228 (out), C3 MGTHTXN2_228 (out), C4 MGTHTXP2_228 (out), D1 MGTHRXN1_228 (in), D2 MGTHRXP1_228 (in), D5 MGTHTXN1_228 (out), D6 MGTHTXP1_228 (out), E3 MGTHRXN0_228 (in), E4 MGTHRXP0_228 (in), F5 MGTHTXN0_228 (out), F6 MGTHTXP0_228 (out), H5 MGTREFCLK1N_228 (in), H6 MGTREFCLK1P_228 (in), K5 MGTREFCLK0N_228 (in), K6 MGTREFCLK0P_228 (in)
part S pins: AD13 NC_AD13, AG26 NC_AG26, AG27 NC_AG27, AG28 NC_AG28, AH26 NC_AH26, AH27 NC_AH27, AH28 NC_AH28, AH29 NC_AH29, AH31 NC_AH31, AH32 NC_AH32, AH33 NC_AH33, AH34 NC_AH34, AJ10 NC_AJ10, AJ11 NC_AJ11, AJ26 NC_AJ26, AJ28 NC_AJ28, AJ29 NC_AJ29, AJ30 NC_AJ30, AJ31 NC_AJ31, AJ32 NC_AJ32, AJ33 NC_AJ33, AJ34 NC_AJ34, AK11 NC_AK11, AK26 NC_AK26, AK27 NC_AK27, AK28 NC_AK28, AK29 NC_AK29, AK30 NC_AK30, AK31 NC_AK31, AK32 NC_AK32, AK33 NC_AK33, AL26 NC_AL26, AL27 NC_AL27, AL28 NC_AL28, AL29 NC_AL29, AL30 NC_AL30, AL32 NC_AL32, AL33 NC_AL33, AL34 NC_AL34, AM9 NC_AM9, AM26 NC_AM26, AM27 NC_AM27, AM29 NC_AM29, AM30 NC_AM30, AM31 NC_AM31, AM32 NC_AM32, AM33 NC_AM33, AM34 NC_AM34, AN26 NC_AN26, AN27 NC_AN27, AN28 NC_AN28, AN29 NC_AN29, AN30 NC_AN30, AN31 NC_AN31, AN32 NC_AN32, AN33 NC_AN33, AN34 NC_AN34, AP26 NC_AP26, AP27 NC_AP27, AP28 NC_AP28, AP29 NC_AP29, AP30 NC_AP30, AP31 NC_AP31, AP33 NC_AP33, AP34 NC_AP34
part T pins: A1 GND_A1 (power), A2 GND_A2 (power), A5 GND_A5 (power), A6 GND_A6 (power), A7 GND_A7 (power), A11 GND_A11 (power), A21 GND_A21 (power), A30 GND_A30 (power), A31 GND_A31 (power), A32 GND_A32 (power), AA1 GND_AA1 (power), AA2 GND_AA2 (power), AA5 GND_AA5 (power), AA11 GND_AA11 (power), AA13 GND_AA13 (power), AA15 GND_AA15 (power), AA17 GND_AA17 (power), AA19 GND_AA19 (power), AA21 GND_AA21 (power), AA31 GND_AA31 (power), AB3 GND_AB3 (power), AB4 GND_AB4 (power), AB8 GND_AB8 (power), AB10 GND_AB10 (power), AB12 GND_AB12 (power), AB14 GND_AB14 (power), AB16 GND_AB16 (power), AB18 GND_AB18 (power), AB28 GND_AB28 (power), AC1 GND_AC1 (power), AC5 GND_AC5 (power), AC11 GND_AC11 (power), AC13 GND_AC13 (power), AC15 GND_AC15 (power), AC17 GND_AC17 (power), AC19 GND_AC19 (power), AC25 GND_AC25 (power), AD4 GND_AD4 (power), AD12 GND_AD12 (power), AD22 GND_AD22 (power), AD32 GND_AD32 (power), AE1 GND_AE1 (power), AE2 GND_AE2 (power), AE5 GND_AE5 (power), AE7 GND_AE7 (power), AE9 GND_AE9 (power), AE19 GND_AE19 (power), AE29 GND_AE29 (power), AF3 GND_AF3 (power), AF4 GND_AF4 (power), AF7 GND_AF7 (power), AF16 GND_AF16 (power), AF26 GND_AF26 (power), AG1 GND_AG1 (power), AG5 GND_AG5 (power), AG7 GND_AG7 (power), AG13 GND_AG13 (power), AG23 GND_AG23 (power), AG33 GND_AG33 (power), AH4 GND_AH4 (power), AH7 GND_AH7 (power), AH10 GND_AH10 (power), AH20 GND_AH20 (power), AH30 GND_AH30 (power), AJ1 GND_AJ1 (power), AJ2 GND_AJ2 (power), AJ5 GND_AJ5 (power), AJ7 GND_AJ7 (power), AJ17 GND_AJ17 (power), AJ27 GND_AJ27 (power)
part U pins: AK3 GND_AK3 (power), AK4 GND_AK4 (power), AK7 GND_AK7 (power), AK14 GND_AK14 (power), AK24 GND_AK24 (power), AK34 GND_AK34 (power), AL1 GND_AL1 (power), AL5 GND_AL5 (power), AL7 GND_AL7 (power), AL11 GND_AL11 (power), AL21 GND_AL21 (power), AL31 GND_AL31 (power), AM4 GND_AM4 (power), AM7 GND_AM7 (power), AM8 GND_AM8 (power), AM18 GND_AM18 (power), AM28 GND_AM28 (power), AN1 GND_AN1 (power), AN2 GND_AN2 (power), AN5 GND_AN5 (power), AN7 GND_AN7 (power), AN15 GND_AN15 (power), AN25 GND_AN25 (power), AP3 GND_AP3 (power), AP4 GND_AP4 (power), AP7 GND_AP7 (power), AP12 GND_AP12 (power), AP22 GND_AP22 (power), AP32 GND_AP32 (power), B3 GND_B3 (power), B4 GND_B4 (power), B7 GND_B7 (power), B8 GND_B8 (power), B18 GND_B18 (power), B28 GND_B28 (power), B30 GND_B30 (power), B33 GND_B33 (power), B34 GND_B34 (power), C1 GND_C1 (power), C5 GND_C5 (power), C7 GND_C7 (power), C15 GND_C15 (power), C25 GND_C25 (power), C30 GND_C30 (power), C31 GND_C31 (power), D4 GND_D4 (power), D7 GND_D7 (power), D12 GND_D12 (power), D22 GND_D22 (power), D30 GND_D30 (power), D34 GND_D34 (power), E1 GND_E1 (power), E2 GND_E2 (power), E5 GND_E5 (power), E7 GND_E7 (power), E9 GND_E9 (power), E19 GND_E19 (power), E29 GND_E29 (power), E30 GND_E30 (power), E32 GND_E32 (power), F3 GND_F3 (power), F4 GND_F4 (power), F7 GND_F7 (power), F16 GND_F16 (power), F26 GND_F26 (power), F28 GND_F28 (power), F29 GND_F29 (power), F33 GND_F33 (power), F34 GND_F34 (power), G1 GND_G1 (power)
part V pins: G5 GND_G5 (power), G7 GND_G7 (power), G13 GND_G13 (power), G23 GND_G23 (power), G28 GND_G28 (power), G31 GND_G31 (power), H4 GND_H4 (power), H7 GND_H7 (power), H10 GND_H10 (power), H20 GND_H20 (power), H28 GND_H28 (power), H30 GND_H30 (power), H34 GND_H34 (power), J1 GND_J1 (power), J2 GND_J2 (power), J5 GND_J5 (power), J7 GND_J7 (power), J17 GND_J17 (power), J27 GND_J27 (power), J28 GND_J28 (power), J32 GND_J32 (power), K3 GND_K3 (power), K4 GND_K4 (power), K14 GND_K14 (power), K24 GND_K24 (power), K28 GND_K28 (power), K30 GND_K30 (power), K34 GND_K34 (power), L1 GND_L1 (power), L5 GND_L5 (power), L11 GND_L11 (power), L21 GND_L21 (power), L28 GND_L28 (power), L31 GND_L31 (power), M4 GND_M4 (power), M8 GND_M8 (power), M10 GND_M10 (power), M12 GND_M12 (power), M14 GND_M14 (power), M16 GND_M16 (power), M18 GND_M18 (power), M28 GND_M28 (power), M30 GND_M30 (power), M33 GND_M33 (power), M34 GND_M34 (power), N1 GND_N1 (power), N2 GND_N2 (power), N5 GND_N5 (power), N9 GND_N9 (power), N11 GND_N11 (power), N13 GND_N13 (power), N15 GND_N15 (power), N17 GND_N17 (power), N19 GND_N19 (power), N25 GND_N25 (power), N28 GND_N28 (power), N32 GND_N32 (power), P3 GND_P3 (power), P4 GND_P4 (power), P8 GND_P8 (power), P10 GND_P10 (power), P12 GND_P12 (power), P14 GND_P14 (power), P16 GND_P16 (power), P18 GND_P18 (power), P22 GND_P22 (power), P28 GND_P28 (power), P30 GND_P30 (power), P34 GND_P34 (power), R1 GND_R1 (power)
part W pins: R5 GND_R5 (power), R9 GND_R9 (power), R11 GND_R11 (power), R13 GND_R13 (power), R15 GND_R15 (power), R17 GND_R17 (power), R19 GND_R19 (power), R28 GND_R28 (power), R31 GND_R31 (power), T4 GND_T4 (power), T8 GND_T8 (power), T10 GND_T10 (power), T12 GND_T12 (power), T14 GND_T14 (power), T16 GND_T16 (power), T18 GND_T18 (power), T20 GND_T20 (power), T26 GND_T26 (power), T28 GND_T28 (power), T29 GND_T29 (power), T30 GND_T30 (power), T33 GND_T33 (power), T34 GND_T34 (power), U1 GND_U1 (power), U2 GND_U2 (power), U5 GND_U5 (power), U13 GND_U13 (power), U15 GND_U15 (power), U17 GND_U17 (power), U19 GND_U19 (power), U23 GND_U23 (power), U30 GND_U30 (power), U31 GND_U31 (power), U32 GND_U32 (power), U33 GND_U33 (power), V3 GND_V3 (power), V4 GND_V4 (power), V8 GND_V8 (power), V10 GND_V10 (power), V14 GND_V14 (power), V16 GND_V16 (power), V18 GND_V18 (power), V20 GND_V20 (power), V30 GND_V30 (power), W1 GND_W1 (power), W5 GND_W5 (power), W13 GND_W13 (power), W15 GND_W15 (power), W17 GND_W17 (power), W19 GND_W19 (power), W27 GND_W27 (power), Y4 GND_Y4 (power), Y8 GND_Y8 (power), Y10 GND_Y10 (power), Y14 GND_Y14 (power), Y16 GND_Y16 (power), Y18 GND_Y18 (power), Y20 GND_Y20 (power), Y24 GND_Y24 (power), Y34 GND_Y34 (power)
part X pins: A33 MGTAVTTRCAL_L (power), A34 MGTRREF_L (power), AA6 MGTVCCAUX_R_AA6 (power), AC2 MGTAVTT_R_AC2 (power), AC6 MGTAVCC_R_AC6 (power), AD3 MGTAVTT_R_AD3 (power), AE6 MGTAVCC_R_AE6 (power), AG2 MGTAVTT_R_AG2 (power), AG6 MGTAVCC_R_AG6 (power), AH3 MGTAVTT_R_AH3 (power), AJ6 MGTAVCC_R_AJ6 (power), AL2 MGTAVTT_R_AL2 (power), AL6 MGTAVCC_R_AL6 (power), AM3 MGTAVTT_R_AM3 (power), AN6 MGTAVCC_R_AN6 (power), AP5 MGTRREF_R (power), AP6 MGTAVTTRCAL_R (power), C2 MGTAVTT_R_C2 (power), C6 MGTAVCC_R_C6 (power), C32 MGTAVTT_L_C32 (power), D3 MGTAVTT_R_D3 (power), D33 MGTAVTT_L_D33 (power), E6 MGTAVCC_R_E6 (power), E31 MGTAVCC_L_E31 (power), F30 MGTAVCC_L_F30 (power), G2 MGTAVTT_R_G2 (power), G6 MGTAVCC_R_G6 (power), G32 MGTAVTT_L_G32 (power), H3 MGTAVTT_R_H3 (power), H29 MGTAVCC_L_H29 (power), H33 MGTAVTT_L_H33 (power), J6 MGTAVCC_R_J6 (power), J31 MGTAVCC_L_J31 (power), K29 MGTVCCAUX_L_K29 (power), K33 MGTAVTT_L_K33 (power), L2 MGTAVTT_R_L2 (power), L6 MGTAVCC_R_L6 (power), L32 MGTAVTT_L_L32 (power), M3 MGTAVTT_R_M3 (power), M29 MGTVCCAUX_L_M29 (power), N6 MGTAVCC_R_N6 (power), N31 MGTAVCC_L_N31 (power), P29 MGTAVCC_L_P29 (power), P33 MGTAVTT_L_P33 (power), R2 MGTAVTT_R_R2 (power), R6 MGTVCCAUX_R_R6 (power), R32 MGTAVTT_L_R32 (power), T3 MGTAVTT_R_T3 (power), U6 MGTAVCC_R_U6 (power), W2 MGTAVTT_R_W2 (power), W6 MGTAVCC_R_W6 (power), Y3 MGTAVTT_R_Y3 (power)
part Y pins: AA8 VCCAUX_AA8 (power), AA10 VCCINT_AA10 (power), AA12 VCCINT_AA12 (power), AA14 VCCINT_AA14 (power), AA16 VCCINT_AA16 (power), AA18 VCCBRAM_AA18 (power), AB11 VCCINT_AB11 (power), AB13 VCCINT_AB13 (power), AB15 VCCINT_AB15 (power), AB17 VCCBRAM_AB17 (power), AB19 VCCAUX_IO_AB19 (power), AC8 VCCAUX_AC8 (power), AC10 VCCINT_AC10 (power), AC12 VCCINT_AC12 (power), AC14 VCCINT_AC14 (power), AC16 VCCINT_AC16 (power), AC18 VCCAUX_IO_AC18 (power), M9 VCCINT_M9 (power), M11 VCCINT_M11 (power), M13 VCCINT_M13 (power), M15 VCCINT_M15 (power), M17 VCCINT_IO_M17 (power), M19 VCCAUX_IO_M19 (power), N8 VCCINT_N8 (power), N10 VCCINT_N10 (power), N12 VCCINT_N12 (power), N14 VCCINT_N14 (power), N16 VCCINT_N16 (power), N18 VCCAUX_IO_N18 (power), P9 VCCINT_P9 (power), P11 VCCINT_P11 (power), P13 VCCINT_P13 (power), P15 VCCINT_P15 (power), P17 VCCINT_IO_P17 (power), P19 VCCAUX_IO_P19 (power), R8 VCCINT_R8 (power), R10 VCCINT_R10 (power), R12 VCCINT_R12 (power), R14 VCCINT_R14 (power), R16 VCCINT_R16 (power), R18 VCCINT_IO_R18 (power), R20 VCCAUX_IO_R20 (power), T9 VCCINT_T9 (power), T11 VCCINT_T11 (power), T13 VCCINT_T13 (power), T15 VCCINT_T15 (power), T17 VCCINT_T17 (power), T19 VCCAUX_IO_T19 (power), U8 VCCAUX_U8 (power), U10 VCCINT_U10 (power), U14 VCCINT_U14 (power), U16 VCCINT_U16 (power), U18 VCCINT_IO_U18 (power), U20 VCCAUX_IO_U20 (power), V13 VCCINT_V13 (power), V15 VCCINT_V15 (power), V17 VCCBRAM_V17 (power), V19 VCCAUX_IO_V19 (power), W8 VCCAUX_W8 (power), W10 VCCINT_W10 (power), W14 VCCINT_W14 (power), W16 VCCINT_W16 (power), W18 VCCINT_IO_W18 (power), W20 VCCAUX_IO_W20 (power), Y13 VCCINT_Y13 (power), Y15 VCCINT_Y15 (power), Y17 VCCBRAM_Y17 (power), Y19 VCCAUX_IO_Y19 (power)
part A text: Config
part B text: Bank: HP
part C text: Bank: HP
part D text: Bank: HP
part E text: Bank: HP
part F text: Bank: HP
part G text: Bank: HP
part H text: Bank: HP
part I text: Bank: HP
part J text: Bank: HD
part K text: Bank: HD
part L text: Bank: GTY
part M text: Bank: GTY
part N text: Bank: GTH
part O text: Bank: GTH
part P text: Bank: GTH
part Q text: Bank: GTH
part R text: Bank: GTH